# Altium integrated library FPGA Peripherals (Wishbone).IntLib: 42 symbols (part 2 of 2)

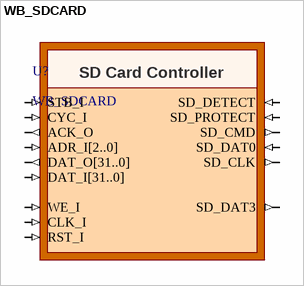
[diagram p23: symbol WB_SDCARD]

## WB_SDCARD
designator U?
Wishbone SD Card Controller; ChildModel: WB_SPI32; ComponentLink1Description: Core &Resource Usage; ComponentLink1URL: CR0139 FPGA Peripheral Resource Usage.pdf; LastRevisionNo: 1.00.00; Published: 20-Nov-2008; Publisher: Altium Limited; HelpURL: https://wiki.altium.com/display/ADOH/WB_SDCARD+-+Wishbone+SD+Card+Controller
pins: ACK_O (out), ADR_I[2..0] (in), CLK_I (in), CYC_I (in), DAT_I[31..0] (in), DAT_O[31..0] (out), RST_I (in), SD_CLK (out), SD_CMD (out), SD_DAT0 (in), SD_DAT3 (out), SD_DETECT (in), SD_PROTECT (in), STB_I (in), WE_I (in)
text: SD Card Controller


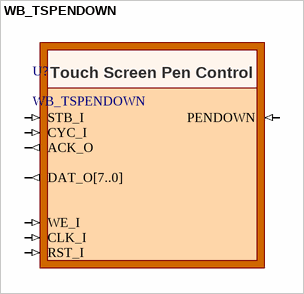
[diagram p24: symbol WB_TSPENDOWN]

## WB_TSPENDOWN
designator U?
Touch Screen Pen Control; Published: 5-Nov-2008; Publisher: Altium Limited; LastRevisionNo: 1.00.00; HelpURL: https://wiki.altium.com/display/ADOH/WB_TSPENDOWN+-+Wishbone+Touch+Screen+Pen+Controller
pins: ACK_O (out), CLK_I (in), CYC_I (in), DAT_O[7..0] (out), PENDOWN (in), RST_I (in), STB_I (in), WE_I (in)


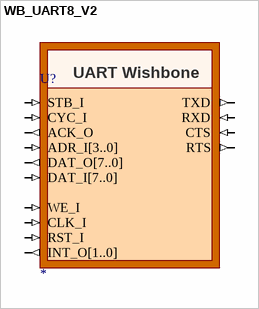
[diagram p25: symbol WB_UART8_V2]

## WB_UART8_V2
designator U?
UART Buffered with handshake, Wishbone; UseInDSF: True; LastRevisionNo: 1.00.00; Published: 6-Jun-2005; Publisher: Altium Limited; ComponentLink1Description: Core &Resource Usage; ComponentLink1URL: CR0139 FPGA Peripheral Resource Usage.pdf#page=118; HelpURL: https://wiki.altium.com/display/ADOH/WB_UART8_V2+-+Wishbone+Serial+Communications+Port+%28Version+2%29
pins: ACK_O (out), ADR_I[3..0] (in), CLK_I (in), CTS (in), CYC_I (in), DAT_I[7..0] (in), DAT_O[7..0] (out), INT_O[1..0] (out), RST_I (in), RTS (out), RXD (in), STB_I (in), TXD (out), WE_I (in)
text: UART Wishbone


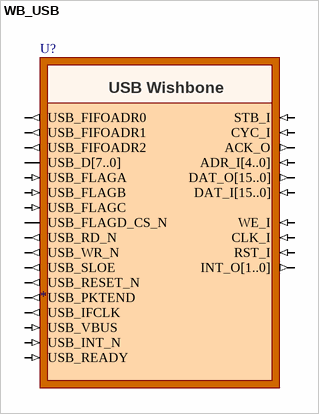
[diagram p26: symbol WB_USB]

## WB_USB
designator U?
Configurable USB Controller Interface; ConfiguratorName: WB_USB; UseInDSF: True; LastRevisionNo: 1.00.00; Published: 12-Jul-2007; Publisher: Altium Limited; ComponentLink1Description: Core &Resource Usage; ComponentLink1URL: CR0139 FPGA Peripheral Resource Usage.pdf; HelpURL: https://wiki.altium.com/display/ADOH/WB_USB+-+Configurable+Wishbone+Universal+Serial+Bus+Interface+Controller
pins: ACK_O (out), ADR_I[4..0] (in), CLK_I (in), CYC_I (in), DAT_I[15..0] (in), DAT_O[15..0] (out), INT_O[1..0] (out), RST_I (in), STB_I (in), USB_D[7..0] (io), USB_FIFOADR0 (out), USB_FIFOADR1 (out), USB_FIFOADR2 (out), USB_FLAGA (in), USB_FLAGB (in), USB_FLAGC (in), USB_FLAGD_CS_N (io), USB_IFCLK (out), USB_INT_N (in), USB_PKTEND (out), USB_RD_N (out), USB_READY (in), USB_RESET_N (out), USB_SLOE (out), USB_VBUS (in), USB_WR_N (out), WE_I (in)
text: USB Wishbone